# EAGLE library part CONNECTOR_USB_MINI-B (library barnabas_noggin_V4)
Usb-Mini F 90 Smd
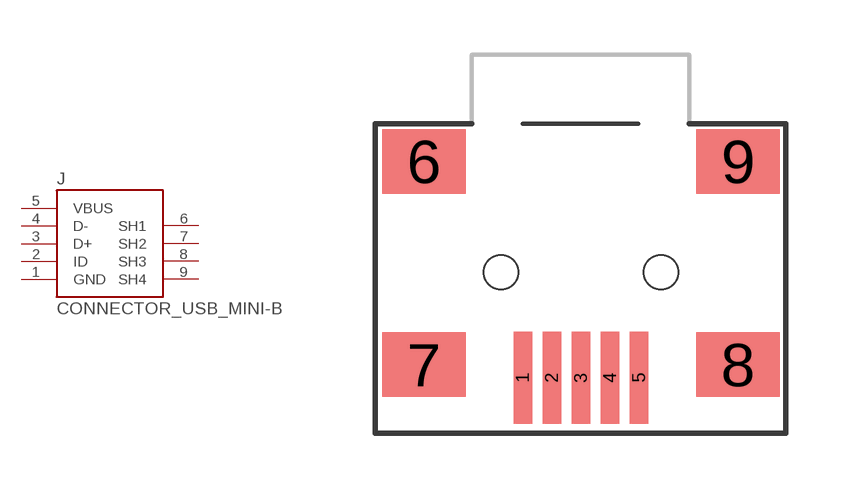
[diagram p2: symbol with the pads of CONNECTOR_USB_MINI-B; footprint CONNECTOR_USB_MINI-B]

Designator prefix J

## CONNECTOR_USB_MINI-B  [CONNECTOR_USB_MINI-B]
1  GND  pas
2  ID
3  D+
4  D-
5  VBUS  pwr
6  SH1  pas
7  SH2  pas
8  SH3  pas
9  SH4  pas

## Footprint CONNECTOR_USB_MINI-B (pad centres in mm)
smd 0.508 x 2.54: 1 0,0; 2 0.8,0; 3 1.6,0; 4 2.4,0; 5 3.2,0
smd 2.286 x 1.778: 6 -2.717,5.948; 7 -2.717,0.36; 8 5.918,0.36; 9 5.918,5.948
hole 0.95 at -0.6,2.9
hole 0.95 at 3.8,2.9